# Altium footprint library PCB - DIODES - CITIZEN LED 1714 0.35MM.PcbLib: 1 footprints
Each footprint in its own frame and in the unit in brackets; x right, y up, seen from the top. Pads: shape width x height; smd on the part's side, far side on the other; paste and mask are expansions set on the pad; w line width, h text height; cw(c..) or ccw(c..) is an arc to the next point about the centre after c.
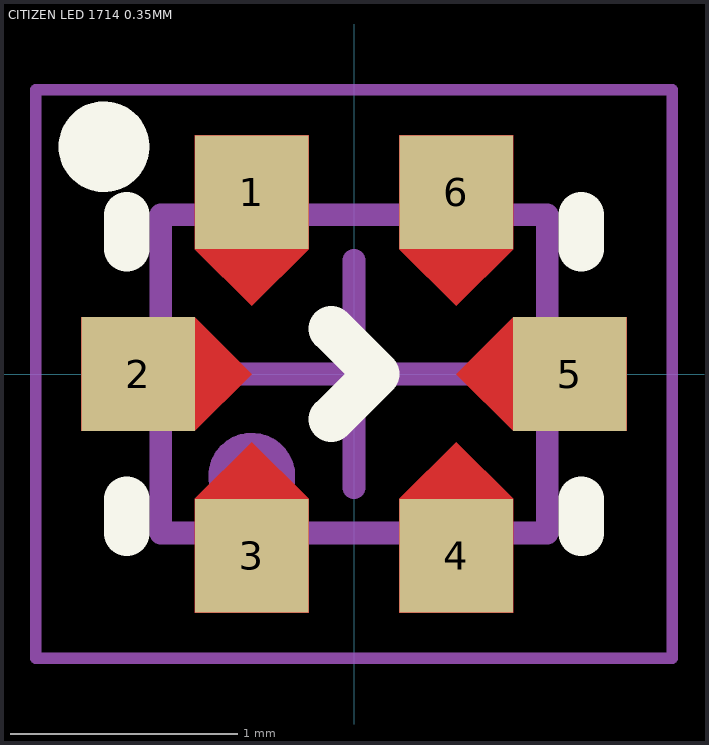
[diagram p0: the footprint, top view; thin cyan lines are the x and y axes]

## CITIZEN LED 1714 0.35MM [mm] "SMD RGB LED Indication, 6 Pads, Body 1.70x1.40mm, No Lead"
height 0.35
pads (6):
  rect 0.5x0.5 smd paste+0 mask+0: 1(-0.45,0.8) 2(-0.95,0) 3(-0.45,-0.8) 4(0.45,-0.8) 5(0.95,0) 6(0.45,0.8)
Top Layer:
  region: 0.7,0.25 0.45,0 0.7,-0.25 1.2,-0.25 1.2,0.25
  region: 0.7,-0.55 0.45,-0.3 0.2,-0.55 0.2,-1.05 0.7,-1.05
  region: 0.2,0.55 0.45,0.3 0.7,0.55 0.7,1.05 0.2,1.05
  region: -0.2,-0.55 -0.45,-0.3 -0.7,-0.55 -0.7,-1.05 -0.2,-1.05
  region: -0.7,0.55 -0.45,0.3 -0.2,0.55 -0.2,1.05 -0.7,1.05
  region: -0.7,-0.25 -0.45,0 -0.7,0.25 -1.2,0.25 -1.2,-0.25
Top Overlay:
  circle w0.2: c-1.1,1 r0.1
  lines w0.2: -1,-0.7 -1,-0.55 ; -1,0.55 -1,0.7 ; -0.1,-0.2 0.1,0 -0.1,0.2 ; 1,-0.7 1,-0.55 ; 1,0.55 1,0.7
Mechanical 13:
  circle w0.1: c-0.45,-0.45 r0.141
  lines w0.1: -0.85,0.7 0.85,0.7 0.85,-0.7 -0.85,-0.7 -0.85,0.7 ; -0.85,0.7 -0.85,0.7 ; -0.85,0.7 -0.85,0.7
Mechanical 15:
  lines w0.05: -1.4,-1.25 1.4,-1.25 1.4,1.25 -1.4,1.25 -1.4,-1.25
Mechanical 2 (Mech9):
  lines w0.1: -0.5,0 0,0 ; 0,-0.5 0,0 ; 0,0.5 0,0 ; 0.5,0 0,0
3D body "Citizen - LED 1714 0.35MM v5 lens.step": height 0.35, standoff 0.13, extent -0.85,-0.7 0.85,0.7
3D body "Citizen - LED 1714 0.35MM v5 body.step": height 0.18, standoff 0, extent -0.85,-0.7 0.85,0.7